# Altium schematic symbol library MLG0603P2N2BT000.SchLib: 1 symbol
Pins are listed as number, name and electrical type; pins without a type are passive.

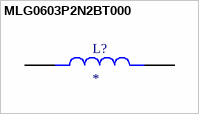
[diagram p0: symbol MLG0603P2N2BT000]

## MLG0603P2N2BT000
designator L?
MF: {'manufacturer': u'TDK Corporation'}; MP: MLG0603P2N2BT000; Package: None; Price: None; Value: *; Availability: Unavailable
footprint INDC0603X33N
pins: 1, 2